# EAGLE library part EVP-ATAL1B000 (library EVP-ATAL1B000)
Tactile Switches Edge Mount side push 1.6N 4.3x1.7mm Source: Datasheet
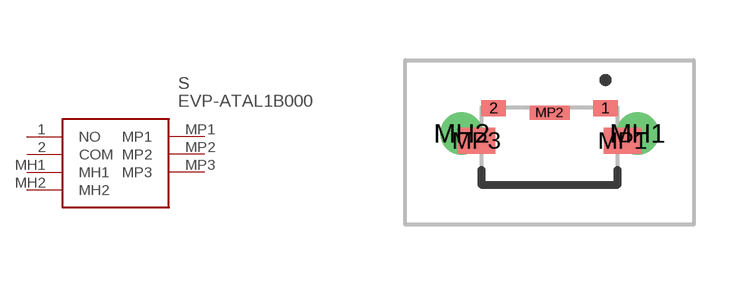
[diagram p0: symbol with the pads of EVPATAL1B000; footprint EVPATAL1B000]

Designator prefix S

## EVP-ATAL1B000 (Description: Tactile Switches Edge Mount side push 1.6N 4.3x1.7mm; Height: 1.105mm; Manufacturer_Name: Panasonic; Manufacturer_Part_Number: EVP-ATAL1B000; Mouser_Part_Number: 667-EVP-ATAL1B000; Mouser_Price-Stock: https://www.mouser.co.uk/ProductDetail/Panasonic/EVP-ATAL1B000?qs=7MVldsJ5Uawk2dHgJdanKg%3D%3D)  [EVPATAL1B000]
1  NO
2  COM
MH1  MH1
MH2  MH2
MP1  MP1
MP2  MP2
MP3  MP3

## Footprint EVPATAL1B000 (pad centres in mm)
EVP-ATAL1B000-1
smd 0.6 x 0.4: 1 1.4,0.952; 2 -1.4,0.952
drill 0.55 pad 0.75: MH1 2.2,0.313; MH2 -2.2,0.313
smd 0.95 x 0.64: MP1 1.825,0.133; MP3 -1.825,0.133
smd 1 x 0.35: MP2 0,0.838